# Altium footprint library Fuse1A.PcbLib: 2 footprints
Each footprint in its own frame and in the unit in brackets; x right, y up, seen from the top. Pads: shape width x height; smd on the part's side, far side on the other; paste and mask are expansions set on the pad; w line width, h text height; cw(c..) or ccw(c..) is an arc to the next point about the centre after c.
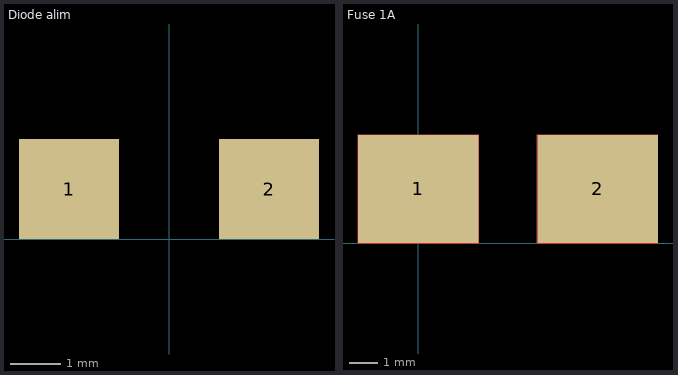
[diagram p0: the footprints below, top view; thin cyan lines are the x and y axes]

## Diode alim [mm]
pads (2):
  rect 2x2 smd: 1(-2,1) 2(2,1)

## Fuse 1A [mil]
pads (2):
  rect 167x150 smd: 1(0,75) 2(248.5,75)
Top Layer:
  lines w1: -83.5,0 83.5,0 83.5,150 -83.5,150 -83.5,0 ; 165,0 165,150 332,150 332,0 165,0